# Altium schematic symbol library 68001-403HLF.SchLib: 1 symbol
Pins are listed as number, name and electrical type; pins without a type are passive.

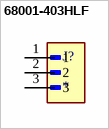
[diagram p0: symbol 68001-403HLF]

## 68001-403HLF
designator J?
MP: 68001-403HLF; Package: None; Price: None; Value: *; Availability: Unavailable
footprint AMPHENOL_68001-403HLF
pins: 1, 2, 3